# EAGLE library part TOP232-234 (library TOP-Switcher)
Design Flexible, Eco Smart, Off-line PWM-Switch (0----45W)
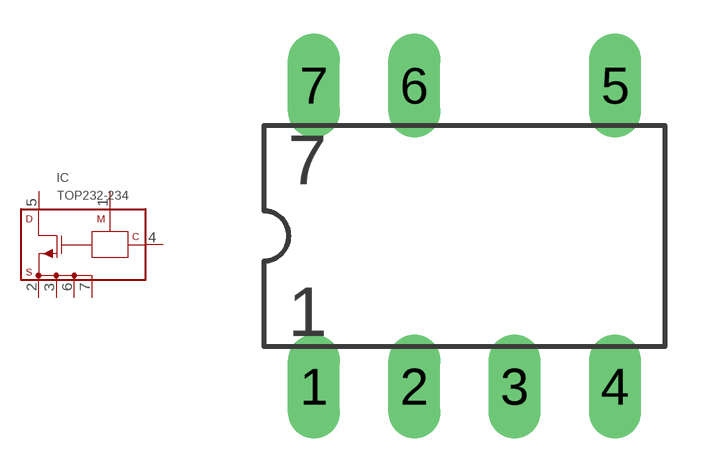
[diagram p4: symbol with the pads of DIP-8B; footprint DIP-8B]

Designator prefix IC

## TOP232-234DIP  [DIP-8B]
1  M
2  S2
3  S3
4  C
5  D
6  S7
7  S8

## Footprint DIP-8B (pad centres in mm)
drill 0.813 long: 1 -3.81,-3.81; 2 -1.27,-3.81; 3 1.27,-3.81; 4 3.81,-3.81; 5 3.81,3.81; 6 -1.27,3.81; 7 -3.81,3.81